# Altium footprint library SR PCB Library V01.PcbLib: 402 footprints (part 3 of 26)
Each footprint in its own frame and in the unit in brackets; x right, y up, seen from the top. Pads: shape width x height; smd on the part's side, far side on the other; paste and mask are expansions set on the pad; w line width, h text height; cw(c..) or ccw(c..) is an arc to the next point about the centre after c.
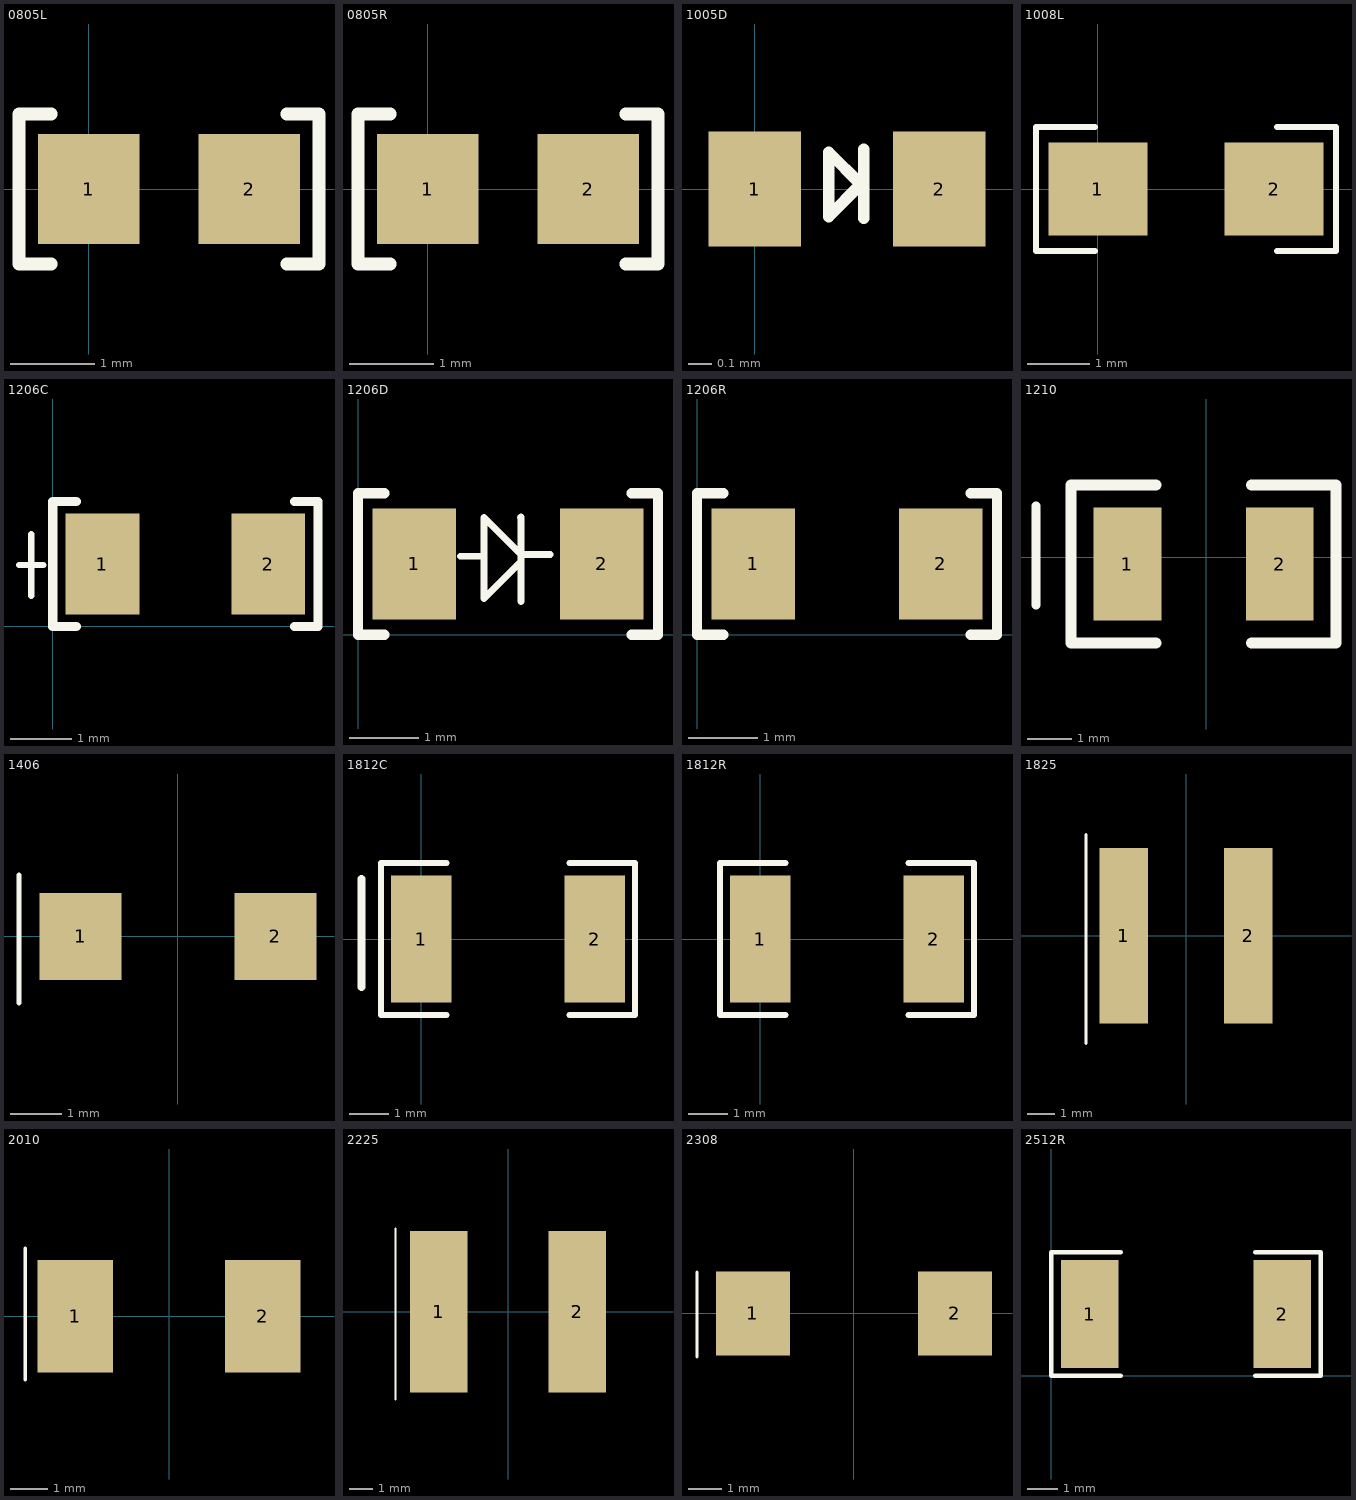
[diagram p2: the footprints below, top view; thin cyan lines are the x and y axes]

## 0805L [mm]
pads (2):
  rect 1.2x1.3 smd: 1(0,0) 2(1.9,0)
Top Overlay:
  lines w0.15: -0.447,-0.889 -0.828,-0.889 -0.828,0.889 -0.447,0.889 ; 2.347,-0.889 2.728,-0.889 2.728,0.889 2.347,0.889

## 0805R [mm]
pads (2):
  rect 1.2x1.3 smd: 1(0,0) 2(1.9,0)
Top Overlay:
  lines w0.15: -0.447,-0.889 -0.828,-0.889 -0.828,0.889 -0.447,0.889 ; 2.347,-0.889 2.728,-0.889 2.728,0.889 2.347,0.889

## 1005D [mm]
pads (2):
  rect 0.4x0.5 smd: 1(0,0) 2(0.8,0)
Top Overlay:
  lines w0.05: 0.472,-0.127 0.472,0.172 ; 0.32,0.16 0.46,0.02 ; 0.32,0.16 0.46,0.02 ; 0.32,0.16 0.32,-0.12 0.46,0.02

## 1008L [mm]
pads (2):
  rect 1.6x1.5 smd: 1(0,0) 2(2.85,0)
Top Overlay:
  lines w0.1: -0.05,-1 -1,-1 -1,1 -0.05,1 ; 2.9,-1 3.85,-1 3.85,1 2.9,1

## 1206C [mm]
pads (2):
  rect 1.2x1.65 smd: 1(0.809,1.016) 2(3.509,1.016)
Top Overlay:
  lines w0.1: -0.55,1 -0.15,1 ; -0.35,0.5 -0.35,1.5
  lines w0.15: 0.381,0 0,0 0,2.032 0.381,2.032 ; 3.937,0 4.318,0 4.318,2.032 3.937,2.032

## 1206D [mm]
pads (2):
  rect 1.2x1.6 smd: 1(0.809,1.016) 2(3.509,1.016)
Top Overlay:
  lines w0.1: 1.477,1.127 1.8,1.127 ; 2.342,1.687 2.346,1.691 2.346,1.052 ; 2.346,0.479 2.346,1.052 ; 2.767,1.154 2.346,1.154 ; 2.346,1.052 2.346,1.154 ; 2.346,1.052 1.814,0.521 1.814,1.507 1.814,1.686 2.346,1.154
  lines w0.15: 0.381,0 0,0 0,2.032 0.381,2.032 ; 3.937,0 4.318,0 4.318,2.032 3.937,2.032

## 1206R [mm]
pads (2):
  rect 1.2x1.6 smd: 1(0.809,1.016) 2(3.509,1.016)
Top Overlay:
  lines w0.15: 0.381,0 0,0 0,2.032 0.381,2.032 ; 3.937,0 4.318,0 4.318,2.032 3.937,2.032

## 1210 [mil]
pads (2):
  rect 60x100 smd: 1(-70,-6) 2(65,-6)
Top Overlay:
  lines w7.87: -151.1,-42.59 -151.1,45.48
  lines w10: -45,-76 -120,-76 -120,64 -45,64 ; 40,-76 115,-76 115,64 40,64

## 1406 [mm]
pads (2):
  rect 1.6x1.7 smd: 1(-1.9,0) 2(1.9,0)
Top Overlay:
  lines w0.1: -3.1,-1.3 -3.1,1.2

## 1812C [mil]
pads (2):
  rect 60x125 smd: 1(0,0) 2(171.22,0)
Top Overlay:
  lines w5.91: 25,-75 -40,-75 -40,75 25,75 ; 146.22,-75 211.22,-75 211.22,75 146.22,75
  lines w7.87: -59.06,-47.24 -59.06,59.06

## 1812R [mil]
pads (2):
  rect 60x125 smd: 1(0,0) 2(171.22,0)
Top Overlay:
  lines w5.91: 25,-75 -40,-75 -40,75 25,75 ; 146.22,-75 211.22,-75 211.22,75 146.22,75

## 1825 [mm]
pads (2):
  rect 1.8x6.5 smd: 1(-2.3,0) 2(2.3,0)
Top Overlay:
  lines w0.1: -3.7,-3.99 -3.7,3.75

## 2010 [mm]
pads (2):
  rect 2x3 smd: 1(-2.5,0) 2(2.5,0)
Top Overlay:
  lines w0.1: -3.831,-1.686 -3.831,1.818

## 2225 [mm]
pads (2):
  rect 2.5x7 smd: 1(-3,0) 2(3,0)
Top Overlay:
  lines w0.1: -4.878,-3.796 -4.878,3.603

## 2308 [mm]
pads (2):
  rect 2.2x2.5 smd: 1(-3,0) 2(3,0)
Top Overlay:
  lines w0.1: -4.659,-1.281 -4.659,1.23

## 2512R [mil]
pads (2):
  rect 75x140 smd: 1(50,80) 2(300,80)
Top Overlay:
  lines w5.91: 90,0 0,0 0,160 90,160 ; 265,0 350,0 350,160 265,160